# Altium schematic symbol library Test_points.SchLib: 3 symbols
Pins are listed as number, name and electrical type; pins without a type are passive.

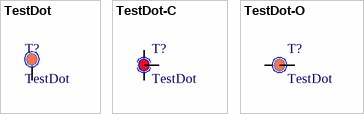
[diagram p0: symbols TestDot to TestDot-O]

## TestDot
designator T?
测试点
footprint TestDot-1mm (测试点)
footprint TestDot-1.5mm (测试点)
footprint TestDot-2x3mm (测试点)
pins: 1 Test

## TestDot-C
designator T?, comment TestDot
测试点
footprint TestDot-1mm-C (测试点)
footprint TestDot-1.5mm-C (测试点)
pins: 1, 2, 3

## TestDot-O
designator T?, comment TestDot
测试点
footprint TestDot-1mm-O (测试点)
footprint TestDot-1.5mm-O (测试点)
pins: 1, 2